# EAGLE library part BMP085 (library air_quality_parts)
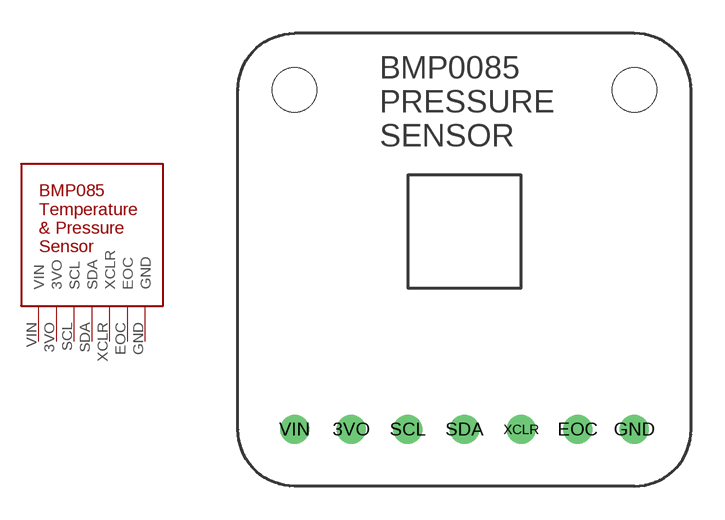
[diagram p6: symbol with the pads of BMP085; footprint BMP085]

Designator prefix -

## BMP085  [BMP085]
3VO  3VO  pwr
EOC  EOC
GND  GND  pwr
SCL  SCL
SDA  SDA
VIN  VIN  pwr
XCLR  XCLR

## Footprint BMP085 (pad centres in mm)
drill 0.8: 3VO 5.08,2.54; EOC 15.24,2.54; GND 17.78,2.54; SCL 7.62,2.54; SDA 10.16,2.54; VIN 2.54,2.54; XCLR 12.7,2.54
hole 2 at 2.54,17.78
hole 2 at 17.78,17.78